# Altium integrated library 0731385003.IntLib: 1 symbol
Pins are listed as number, name and electrical type; pins without a type are passive.

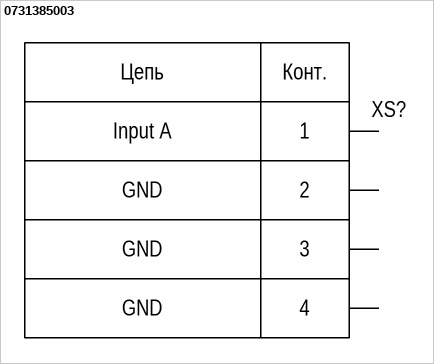
[diagram p0: symbol 0731385003]

## 0731385003
designator XS?  (value not drawn)
BNC Connector Jack
footprint 0731385003 (Molex) (BNC Connector Jack, 4-Leads, Body 35.45x14.75 mm)
pins: 1 Input A, 2 GND, 3 GND, 4 GND
2 alternate drawings of the same symbol
text: Цепь; Конт.